# Altium footprint library PCB Footprints.PcbLib: 6 footprints
Each footprint in its own frame and in the unit in brackets; x right, y up, seen from the top. Pads: shape width x height; smd on the part's side, far side on the other; paste and mask are expansions set on the pad; w line width, h text height; cw(c..) or ccw(c..) is an arc to the next point about the centre after c.
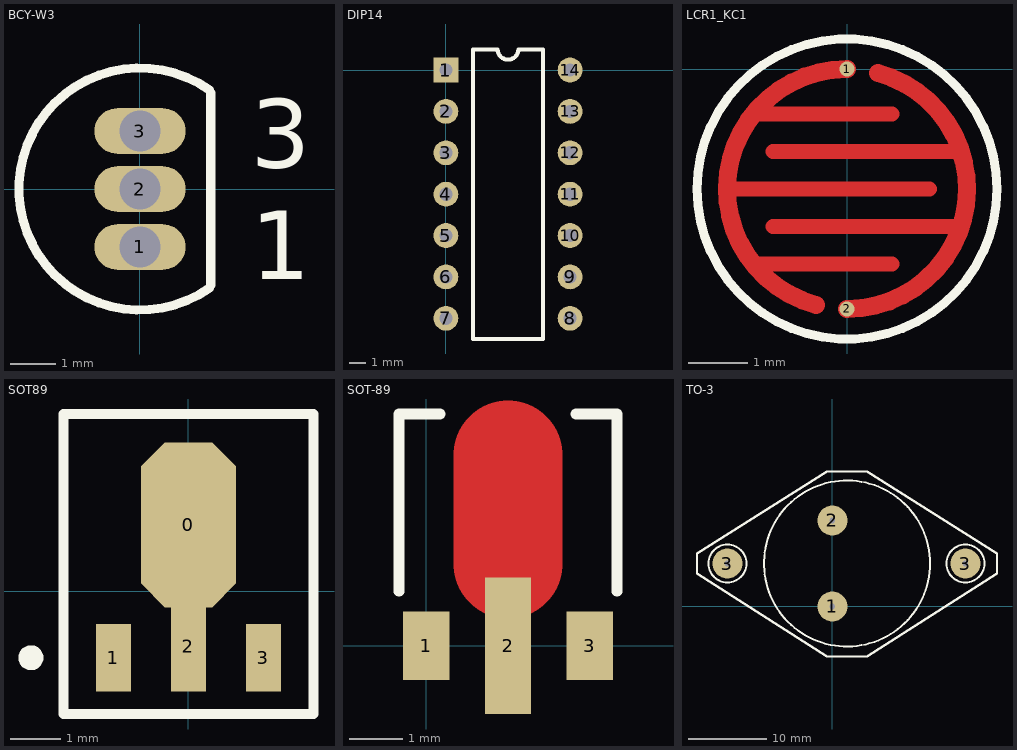
[diagram p0: the footprints below, top view; thin cyan lines are the x and y axes]

## BCY-W3 [mm]
pads (3):
  oval 2x1 hole 0.9: 1(0,-1.27) 2(0,0) 3(0,1.27)
Top Overlay:
  lines w0.2: 1.52,-2.171 cw(c0,0) 1.52,2.171 ; 1.55,-2.1 1.55,2.1
  text "1" at 2.421,-1.979 h1.5
  text "3" at 2.421,0.467 h1.5

## DIP14 [mil]
height 200
pads (14):
  rect 60x60 hole 32: 1(0,0)
  round 60 hole 32: 2(0,-100) 3(0,-200) 4(0,-300) 5(0,-400) 6(0,-500) 7(0,-600) 8(300,-600) 9(300,-500) 10(300,-400) 11(300,-300) 12(300,-200) 13(300,-100) 14(300,0)
Top Overlay:
  lines w10: 65,-650 235,-650 235,50 175,50 cw(c150,50) 125,50 65,50 65,-650

## LCR1_KC1 [mil]
pads (2):
  round 10 smd: 1(0,0) 2(0,-160)
Top Layer:
  lines w10: -80,-80 55,-80 ; -60,-130 30,-130 ; -59.44,-30 30,-30 ; -49.44,-105 75,-105 ; -49.44,-55 75,-55
  lines w12: -20.71,-157.27 cw(c0,-80) 0,0 ; 0,-160 ccw(c0,-80) 20.71,-2.73
Top Overlay:
  circle w6: c0,-80 r100
Top Solder:
  circle w100: c0,-80 r45

## SOT89 [mm]
pads (4):
  oct 1.9x3.3 smd: 0(0,1.329)
  rect 0.7x1.35 smd: 1(-1.5,-1.329) 3(1.5,-1.329)
  rect 0.7x1.8 smd: 2(0,-1.104)
Top Overlay:
  circle w0.25: c-3.15,-1.329 r0.125
  lines w0.2: -2.5,-2.454 2.5,-2.454 2.5,3.546 -2.5,3.546 -2.5,-2.454

## SOT-89 [mil]
pads (3):
  rect 34x50 smd: 1(0,0) 3(120,0)
  rect 34x100 smd: 2(60,0)
Top Layer:
  lines w80: 60,60 60,140
Top Overlay:
  lines w8: -20,40 -20,170 10,170 ; 110,170 140,170 140,40

## TO-3 [mil]
pads (4):
  round 150 hole 28: 1(0,0) 2(0,430) 3(-525,215) 3(665,215)
Top Overlay:
  circle w10: c-525,215 r95
  circle w10: c665,215 r95
  circle w10: c73,215 r415
  lines w12: -677,165 -677,265 -27,675 173,675 823,265 823,165 173,-250 -27,-250 -677,165